# Altium schematic symbol library ESKDLib.SchLib: 109 symbols (part 2 of 2)
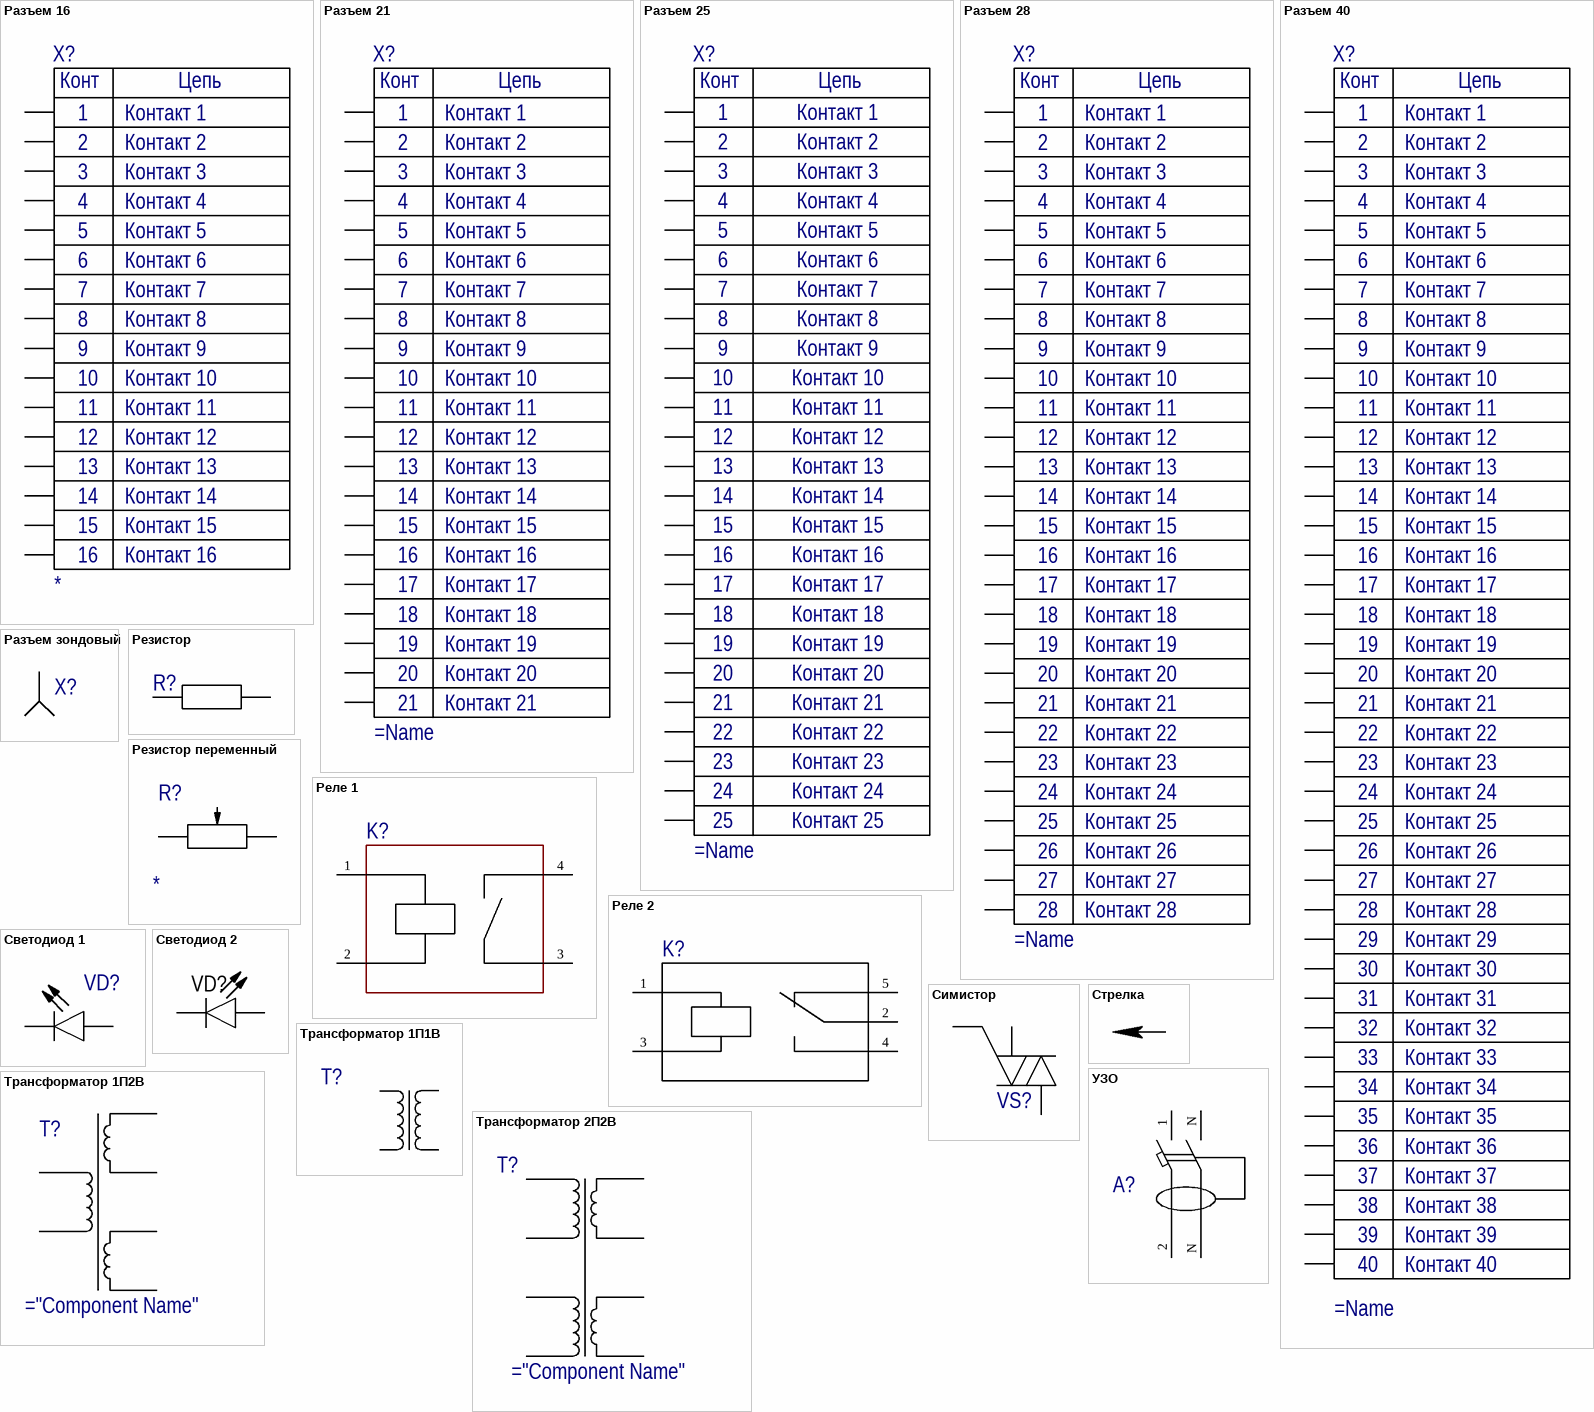
[diagram p7: symbols Разъем 16 to УЗО]

## Разъем 40
designator X?
разъем 40-ка контактный; Contact_1: Контакт 1; Contact_2: Контакт 2; Contact_3: Контакт 3; Contact_4: Контакт 4; Contact_5: Контакт 5; Contact_6: Контакт 6; Contact_7: Контакт 7; Contact_8: Контакт 8; Contact_9: Контакт 9; Contact_10: Контакт 10; Contact_11: Контакт 11; Contact_12: Контакт 12; Contact_13: Контакт 13; Contact_14: Контакт 14; Contact_15: Контакт 15; Contact_16: Контакт 16; Contact_17: Контакт 17; Contact_18: Контакт 18; Contact_19: Контакт 19; Contact_20: Контакт 20; Contact_21: Контакт 21; Contact_22: Контакт 22; Contact_23: Контакт 23; Contact_24: Контакт 24; Contact_25: Контакт 25; Contact_26: Контакт 26; Contact_27: Контакт 27; Contact_28: Контакт 28; Contact_29: Контакт 29; Contact_30: Контакт 30; Contact_31: Контакт 31; Contact_32: Контакт 32; Contact_33: Контакт 33; Contact_34: Контакт 34; Contact_35: Контакт 35; Contact_36: Контакт 36; Contact_37: Контакт 37; Contact_38: Контакт 38; Contact_39: Контакт 39; Contact_40: Контакт 40; 1: 1; 2: 2; 3: 3; 4: 4; 5: 5; 6: 6; 7: 7; 8: 8; 9: 9; 10: 10; Component Kind: *; Component Name: *; Component Type: *; Designator: *; Footprint: *; Library Reference: *; Manufacturer: *; Package: *; Part Number: *; TechSpec: *; Tolerance: *; Value: *; Voltage: *; ValueManufacturerPartNumber: =Designator+’ “’+Package+’”-‘+Voltage+’-‘+Value+’ ‘+Tolerance+’ ‘+TechSpec; 11: 11; 12: 12; 13: 13; 14: 14; 15: 15; 16: 16; 17: 17; 18: 18; 19: 19; 20: 20; 21: 21; 22: 22; 23: 23; 24: 24; 25: 25; 26: 26; 27: 27; 28: 28; 29: 29; 30: 30; 31: 31; 32: 32; 33: 33; 34: 34; 35: 35; 36: 36; 37: 37; 38: 38; 39: 39; 40: 40
pins: 1, 2, 3, 4, 5, 6, 7, 8, 9, 10, 11, 12, 13, 14, 15, 16, 17, 18, 19, 20, 21, 22, 23, 24, 25, 26, 27, 28, 29, 30, 31, 32, 33, 34, 35, 36, 37, 38, 39, 40
text: Конт; Цепь

## Разъем зондовый
designator X?  (value not drawn)
Разъем 1 зондовый; ValueManufacturerPartNumber: * * *; ComponentKind: Standart; ComponentName: *; ComponentType: *; Designator: *; Footprint: *; LibraryReference: *; Manufacturer: *; Package: *; PartNumber: *; TechSpec: *; Tolerance: *; Value: *; Voltage: *; Power: *
pins: 1

## Резистор
designator R?  (value not drawn)
резистор; ValueManufacturerPartNumber: Резистор *-*-** *; ComponentKind: Standart; ComponentName: *; ComponentType: Резистор; Designator: *; Footprint: *; LibraryReference: *; Manufacturer: *; Package: *; PartNumber: *; TechSpec: *; Tolerance: *; Value: *; Voltage: *; Power: *
footprint R0402_H
footprint R0402_A
footprint R0201_A
footprint R0603_A
footprint R0603_H
footprint R0805_A
footprint R0805_H
footprint R1206_A
footprint R1206_H
footprint R1210_A
footprint R1210_H
footprint R2010_A
footprint R2010_H
footprint R2512_A
footprint R2512_H
pins: 1, 2

## Резистор переменный
designator R?
резистор переменный; ValueManufacturerPartNumber: Резистор переменный *-*-** *; ComponentKind: Standart; ComponentName: *; ComponentType: Резистор переменный; Designator: *; Footprint: *; LibraryReference: *; Manufacturer: *; Package: *; PartNumber: *; TechSpec: *; Tolerance: *; Value: *; Voltage: *; Power: *
footprint trimmer_3296W
pins: 1, 2, 3

## Реле 1
designator K?
реле; ComponentKind: Standart; ComponentType: Реле; Designator: *; Footprint: *; Library Reference: *; Manufacturer: *; Package: *; Part Number: *; Tolerance: *; Value: *; Voltage: *; ValueManufacturerPartNumber: Реле
pins: 1, 2, 3, 4

## Реле 2
designator K?
реле; ComponentKind: Standart; ComponentType: Реле; Designator: *; Footprint: *; Library Reference: *; Manufacturer: *; Package: *; Part Number: *; Tolerance: *; Value: *; Voltage: *; ValueManufacturerPartNumber: Реле
footprint SRD-XVDC-SL-C
pins: 1, 2, 3, 4, 5

## Светодиод 1
designator VD?
Светодиод; ValueManufacturerPartNumber: Индикатор единичный * *; ComponentKind: Standart; ComponentName: *; ComponentType: Индикатор единичный; Designator: *; Footprint: *; LibraryReference: *; Manufacturer: *; Package: *; PartNumber: *; TechSpec: *; Tolerance: *; Value: *; Voltage: *; Power: *
pins: 1 к, 2 а

## Светодиод 2
designator VD?
Светодиод; ValueManufacturerPartNumber: Индикатор единичный * *; ComponentKind: Standart; ComponentName: *; ComponentType: Индикатор единичный; Designator: *; Footprint: *; LibraryReference: *; Manufacturer: *; Package: *; PartNumber: *; TechSpec: *; Tolerance: *; Value: *; Voltage: *; Power: *
pins: 1 к, 2 а

## Симистор
designator VS?  (value not drawn)
симистор; ValueManufacturerPartNumber: Симистор * *; ComponentKind: Standart; ComponentName: *; ComponentType: Симистор; Designator: *; Footprint: *; Library Reference: *; Manufacturer: *; Package: *; Part Number: *; TechSpec: *; Tolerance: *; Value: *; Voltage: *
footprint TO-220
pins: 1 A1, 2 A2, 3 G

## Стрелка
designator ?  (graphical)
pins: 1

## Трансформатор 1П1В
designator T?
трансформатор 2П2В; ComponentKind: Standart; ComponentName: *; ComponentType: *; Designator: *; Footprint: *; LibraryReference: *; Manufacturer: *; Package: *; PartNumber: *; TechSpec: *; Tolerance: *; Value: *; Voltage: *; ValueManufacturerPartNumber: =Designator+’ “’+Package+’”-‘+Voltage+’-‘+Value+’ ‘+Tolerance+’ ‘+TechSpec
pins: 1, 2, 3, 4

## Трансформатор 1П2В
designator T?
трансформатор 1П2В; ComponentKind: Standart; ComponentName: *; ComponentType: *; Designator: *; Footprint: *; LibraryReference: *; Manufacturer: *; Package: *; PartNumber: *; TechSpec: *; Tolerance: *; Value: *; Voltage: *; ValueManufacturerPartNumber: =Designator+’ “’+Package+’”-‘+Voltage+’-‘+Value+’ ‘+Tolerance+’ ‘+TechSpec
pins: 1, 2, 3, 4, 5, 6

## Трансформатор 2П2В
designator T?
трансформатор 2П2В; ComponentKind: Standart; ComponentName: *; ComponentType: *; Designator: *; Footprint: *; LibraryReference: *; Manufacturer: *; Package: *; PartNumber: *; TechSpec: *; Tolerance: *; Value: *; Voltage: *; ValueManufacturerPartNumber: =Designator+’ “’+Package+’”-‘+Voltage+’-‘+Value+’ ‘+Tolerance+’ ‘+TechSpec
pins: 1, 2, 3, 4, 5, 6, 7, 8

## УЗО
designator A?  (value not drawn)
УЗО; ValueManufacturerPartNumber: УЗО *-*-** *; ComponentKind: Standart; ComponentName: *; ComponentType: УЗО; Designator: *; Footprint: *; LibraryReference: *; Manufacturer: *; Package: *; PartNumber: *; TechSpec: *; Tolerance: *; Value: *; Voltage: *
pins: 1, 2, N, N